# Altium footprint library PcbLib1.PcbLib: 36 footprints (part 1 of 3)
Each footprint in its own frame and in the unit in brackets; x right, y up, seen from the top. Pads: shape width x height; smd on the part's side, far side on the other; paste and mask are expansions set on the pad; w line width, h text height; cw(c..) or ccw(c..) is an arc to the next point about the centre after c.
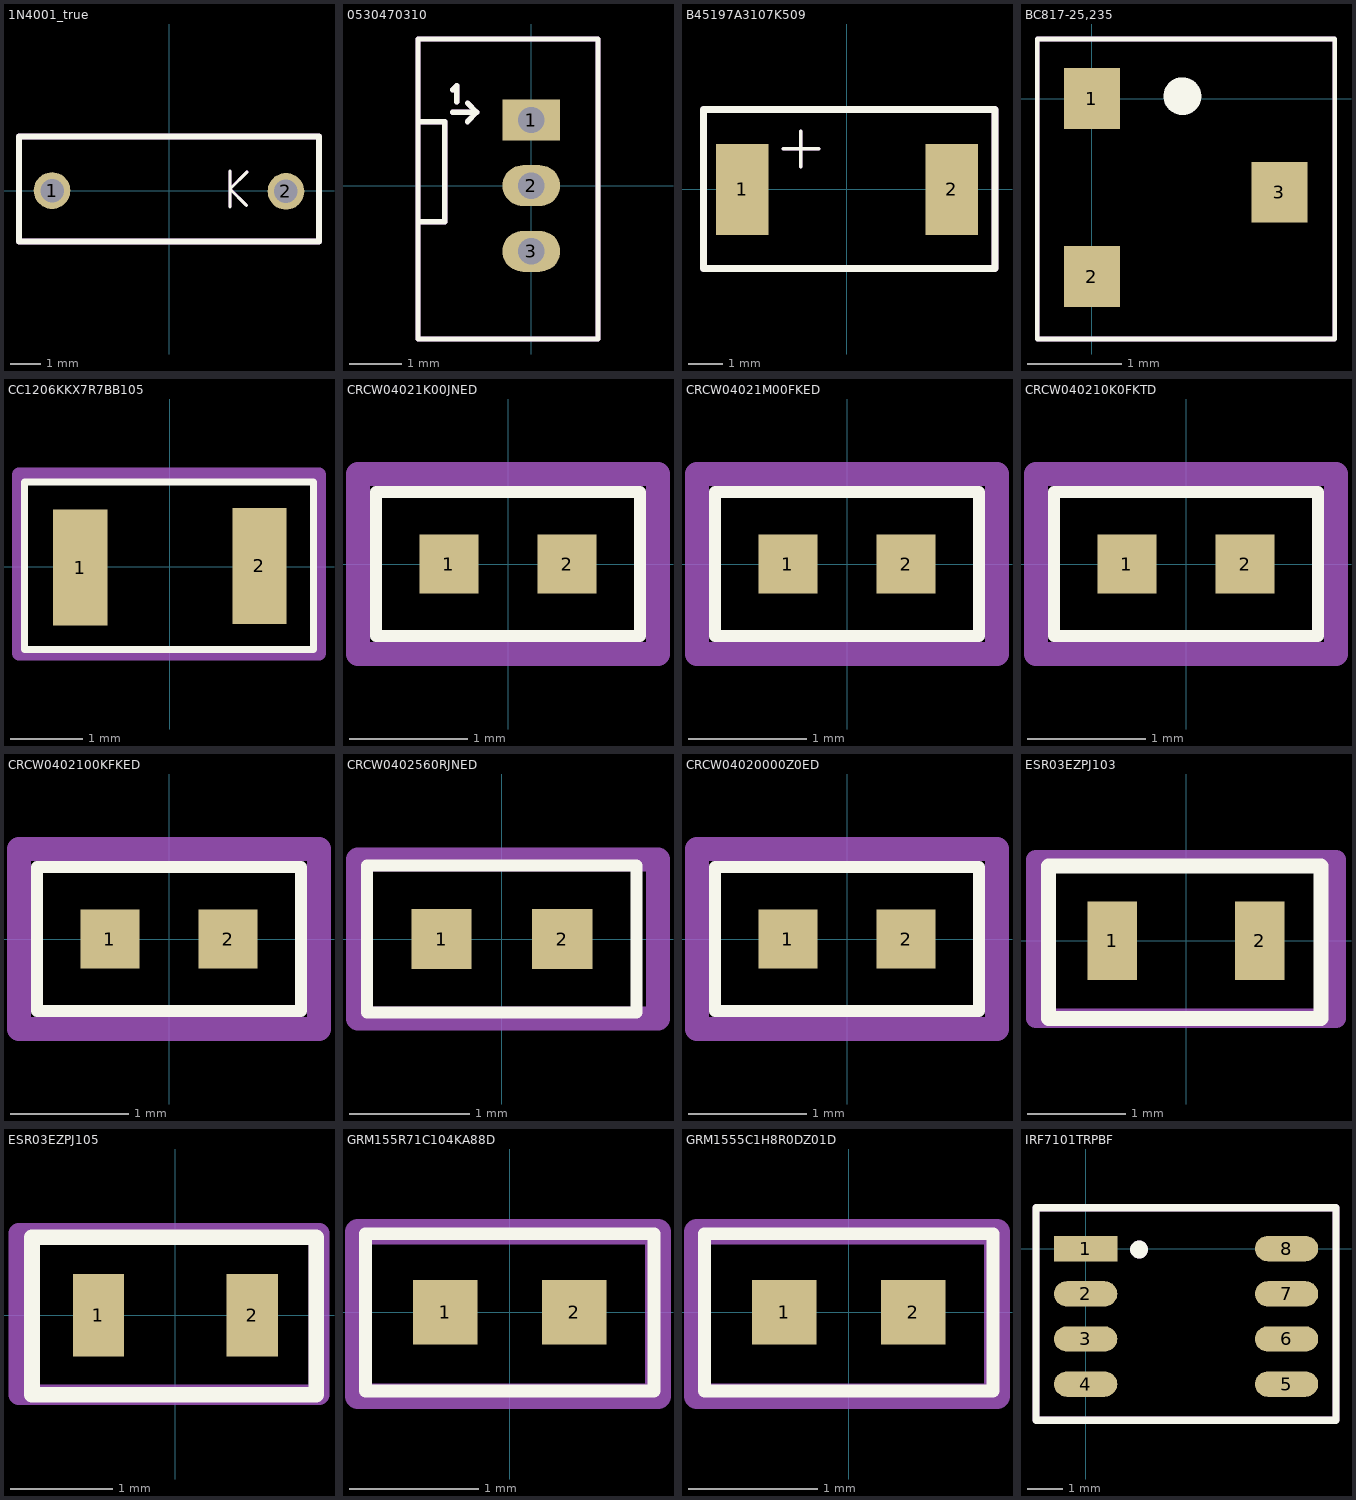
[diagram p0: the footprints below, top view; thin cyan lines are the x and y axes]

## 1N4001_true [mm]
pads (2):
  round 1.2 hole 0.77: 1(-3.823,0.013) 2(3.823,-0.013)
Top Overlay:
  lines w0.1: 1.994,-0.521 1.994,0.648 ; 2.527,-0.47 1.994,0.064 2.553,0.622
  lines w0.2: -4.902,-1.651 4.902,-1.651 4.902,1.778 -4.902,1.778 -4.902,-1.651
Mechanical 29:
  lines w0.1: 1.994,-0.51 1.994,0.659 ; 2.527,-0.459 1.994,0.074 2.553,0.633
  lines w0.2: -4.902,-1.651 4.902,-1.651 4.902,1.778 -4.902,1.778 -4.902,-1.651
  text ".Designator" at -3.343,-0.708 h1.2
3D body "diode 1N4001.step": height 3.62, standoff -1.15, extent -4.093,-1.245 4.043,1.287

## 0530470310 [mm]
pads (3):
  rect 1.1x0.78 hole 0.5: 1(0,1.25)
  oval 1.1x0.78 hole 0.5: 2(0,0) 3(0,-1.25)
Top Overlay:
  lines w0.1: -2.159,-0.686 -1.651,-0.686 -1.651,1.219 -2.159,1.219 ; -1.496,1.397 -1.242,1.397 -1.039,1.397 ; -1.496,1.829 -1.42,1.905 -1.42,1.601 ; -1.217,1.22 -1.039,1.397 ; -1.217,1.575 -1.039,1.397 ; -2.159,-2.921 1.27,-2.921 1.27,2.794 -2.159,2.794 -2.159,-2.921
Mechanical 29:
  lines w0.1: -2.159,-0.686 -1.651,-0.686 -1.651,1.219 -2.159,1.219 ; -1.496,1.397 -1.242,1.397 -1.039,1.397 ; -1.496,1.829 -1.42,1.905 -1.42,1.601 ; -1.217,1.22 -1.039,1.397 ; -1.217,1.575 -1.039,1.397 ; -2.159,-2.921 -2.159,2.794 1.27,2.794 1.27,-2.921 -2.159,-2.921
  text ".Designator" at -1.832,-2.55 h1.2
3D body "530470310.stp": height 4.21, standoff -2.29, extent -2.032,-2.777 1.168,2.723

## B45197A3107K509 [mm]
pads (2):
  rect 1.5x2.6 smd: 1(-3,0) 2(3,0)
Top Overlay:
  lines w0.1: -1.83,1.161 -0.814,1.161 ; -1.322,0.653 -1.322,1.669
  lines w0.2: -4.115,-2.261 4.242,-2.261 4.242,2.286 -4.115,2.286 -4.115,-2.261
Mechanical 29:
  lines w0.1: -1.83,1.161 -0.814,1.161 ; -1.322,0.653 -1.322,1.669
  lines w0.2: -4.115,-2.261 4.242,-2.261 4.242,2.286 -4.115,2.286 -4.115,-2.261
  text "'.Designator'" at -3.875,-0.042 h0.7
3D body "PCAP7343-44_Kemet_KEM.step": height 4.44, standoff 0, extent -3.645,-2.146 3.645,2.146

## BC817-25,235 [mm] "SOT23, 3-Leads, Body 2,90x2,30mm, Pitch 0,95mm, IPC Low Density"
height 1.1
pads (3):
  rect 0.6x0.65 smd: 1(0,0) 2(0,-1.9) 3(2,-1)
Top Overlay:
  circle w0.25: c0.965,0.025 r0.076
  lines w0.05: -0.584,-2.565 -0.584,0.635 2.591,0.635 2.591,-2.565 -0.584,-2.565
Mechanical 29:
  lines w0.05: -0.584,-2.565 -0.584,0.635 2.591,0.635 2.591,-2.565 -0.584,-2.565
  text "'.Designator'" at -0.408,-0.937 h0.7
3D body "BC817-25,235.STEP": height 1.1, standoff 0, extent -0.134,-2.413 2.166,0.487

## CC1206KKX7R7BB105 [mm]
pads (2):
  rect 0.75x1.6 smd: 1(-1.235,-0.013) 2(1.235,0.013)
Top Overlay:
  lines w0.1: -2.007,-1.143 -2.007,1.168 1.981,1.168 1.981,-1.143 -2.007,-1.143
Mechanical 29:
  lines w0.2: -2.083,-1.194 -2.083,1.27 2.057,1.27 2.057,-1.194 -2.083,-1.194
  text "'.Designator'" at -1.78,-0.226 h0.7
3D body "CC1206N_YAG.step": height 0.71, standoff 0, extent -1.6,-0.8 1.6,0.8

## CRCW04021K00JNED [mm]
pads (2):
  rect 0.5x0.5 smd: 1(-0.5,0) 2(0.5,0)
Top Overlay:
  lines w0.1: -1.118,-0.61 -1.118,0.61 1.118,0.61 1.118,-0.61 -1.118,-0.61
Mechanical 29:
  lines w0.2: -1.27,-0.762 1.27,-0.762 1.27,0.762 -1.27,0.762 -1.27,-0.762
  text "'.Designator'" at -0.916,-0.429 h0.7
3D body "CRCW040210K0FKTD.step": height 0.4, standoff 0, extent -0.5,-0.25 0.5,0.25

## CRCW04021M00FKED [mm]
pads (2):
  rect 0.5x0.5 smd: 1(-0.5,0) 2(0.5,0)
Top Overlay:
  lines w0.1: -1.118,-0.61 1.118,-0.61 1.118,0.61 -1.118,0.61 -1.118,-0.61
Mechanical 29:
  lines w0.2: -1.27,-0.762 1.27,-0.762 1.27,0.762 -1.27,0.762 -1.27,-0.762
  text "'.Designator'" at -0.916,-0.429 h0.7
3D body "CRCW040210K0FKTD.step": height 0.4, standoff 0, extent -0.5,-0.25 0.5,0.25

## CRCW040210K0FKTD [mm]
pads (2):
  rect 0.5x0.5 smd: 1(-0.5,0) 2(0.5,0)
Top Overlay:
  lines w0.1: -1.118,-0.61 1.118,-0.61 1.118,0.61 -1.118,0.61 -1.118,-0.61
Mechanical 29:
  lines w0.2: -1.27,-0.762 1.27,-0.762 1.27,0.762 -1.27,0.762 -1.27,-0.762
  text "'.Designator'" at -0.916,-0.429 h0.7
3D body "CRCW040210K0FKTD.step": height 0.4, standoff 0, extent -0.5,-0.25 0.5,0.25

## CRCW0402100KFKED [mm]
pads (2):
  rect 0.5x0.5 smd: 1(-0.5,0) 2(0.5,0)
Top Overlay:
  lines w0.1: -1.118,-0.61 -1.118,0.61 1.118,0.61 1.118,-0.61 -1.118,-0.61
Mechanical 29:
  lines w0.2: -1.27,-0.762 -1.27,0.762 1.27,0.762 1.27,-0.762 -1.27,-0.762
  text "'.Designator'" at -0.916,-0.429 h0.7
3D body "CRCW040210K0FKTD.step": height 0.4, standoff 0, extent -0.5,-0.25 0.5,0.25

## CRCW0402560RJNED [mm]
pads (2):
  rect 0.5x0.5 smd: 1(-0.5,0) 2(0.5,0)
Top Overlay:
  lines w0.1: -1.118,-0.61 -1.118,0.61 1.118,0.61 1.118,-0.61 -1.118,-0.61
Mechanical 29:
  lines w0.2: -1.194,-0.66 -1.194,0.66 1.295,0.66 1.295,-0.66 -1.194,-0.66
  text "'.Designator'" at -1.5,-0.378 h0.7
3D body "CRCW040210K0FKTD.step": height 0.4, standoff 0, extent -0.5,-0.25 0.5,0.25

## CRCW04020000Z0ED [mm]
pads (2):
  rect 0.5x0.5 smd: 1(-0.5,0) 2(0.5,0)
Top Overlay:
  lines w0.1: -1.118,-0.61 -1.118,0.61 1.118,0.61 1.118,-0.61 -1.118,-0.61
Mechanical 29:
  lines w0.2: -1.27,-0.762 1.27,-0.762 1.27,0.762 -1.27,0.762 -1.27,-0.762
  text "'.Designator'" at -0.916,-0.429 h0.7
3D body "CRCW040210K0FKTD.step": height 0.4, standoff 0, extent -0.5,-0.25 0.5,0.25

## ESR03EZPJ103 [mm]
pads (2):
  rect 0.5x0.8 smd: 1(-0.75,0) 2(0.75,0)
Top Overlay:
  lines w0.152: -1.397,-0.787 1.372,-0.787 1.372,0.762 -1.397,0.762 -1.397,-0.787
Mechanical 29:
  lines w0.2: -1.524,-0.787 1.524,-0.787 1.524,0.825 -1.524,0.825 -1.524,-0.787
  text "'.Designator'" at -1.275,-0.242 h0.7
3D body "RES_R0603_ROM.step": height 0.56, standoff 0, extent -0.851,-0.444 0.851,0.444

## ESR03EZPJ105 [mm]
pads (2):
  rect 0.5x0.8 smd: 1(-0.75,0) 2(0.75,0)
Top Overlay:
  lines w0.152: -1.397,-0.775 -1.397,0.762 1.372,0.762 1.372,-0.775 -1.397,-0.775
Mechanical 29:
  lines w0.2: -1.524,-0.775 -1.524,0.8 1.4,0.8 1.4,-0.775 -1.524,-0.775
  text "'.Designator'" at -1.275,-0.217 h0.7
3D body "RES_R0603_ROM.step": height 0.56, standoff 0, extent -0.851,-0.444 0.851,0.444

## GRM155R71C104KA88D [mm]
pads (2):
  rect 0.5x0.5 smd: 1(-0.5,0) 2(0.5,0)
Top Overlay:
  lines w0.1: -1.118,-0.61 -1.118,0.61 1.118,0.61 1.118,-0.61 -1.118,-0.61
Mechanical 29:
  lines w0.2: -1.175,-0.65 -1.175,0.625 1.15,0.625 1.15,-0.65 -1.175,-0.65
  text "'.Designator'" at -1.043,-0.302 h0.7
3D body "CAP_GRM_155_MUR.step": height 0.56, standoff 0, extent -0.521,-0.279 0.521,0.279

## GRM1555C1H8R0DZ01D [mm]
pads (2):
  rect 0.5x0.5 smd: 1(-0.5,0) 2(0.5,0)
Top Overlay:
  lines w0.1: -1.118,-0.61 -1.118,0.61 1.118,0.61 1.118,-0.61 -1.118,-0.61
Mechanical 29:
  lines w0.2: -1.175,-0.65 -1.175,0.625 1.15,0.625 1.15,-0.65 -1.175,-0.65
  text "'.Designator'" at -1.35,-0.317 h0.7
3D body "C0402.STEP": height 0.56, standoff 0.01, extent -0.5,-0.25 0.5,0.25

## IRF7101TRPBF [mil] "SOIC, 8-Leads, Body 4,90x3,90mm, Pitch 1,27mm, IPC Low Density"
height 68.9
pads (8):
  rect 70x28 smd: 1(0,0)
  oval 70x28 smd: 2(0,-50) 3(0,-100) 4(0,-150) 5(222.44,-150) 6(222.44,-100) 7(222.44,-50) 8(222.44,0)
Top Overlay:
  circle w9.84: c59.06,-0.98 r4.92
  lines w7.87: -55,-190 277.07,-190 277.07,45.28 -55,45.28 -55,-190
Mechanical 29:
  circle w9.84: c59.06,-0.98 r4.92
  lines w7.87: -54.95,-189.71 277.12,-189.71 277.12,45.28 -54.95,45.28 -54.95,-189.71
  text "'.Designator'" at -28.54,-73.49 h27.56
3D body "IRF7101Pbf.STEP": height 68.9, standoff 0.04, extent -11.49,-173.43 233.93,23.43